# Altium schematic symbol library OltestLib_RC.SchLib: 93 symbols
Pins are listed as number, name and electrical type; pins without a type are passive.

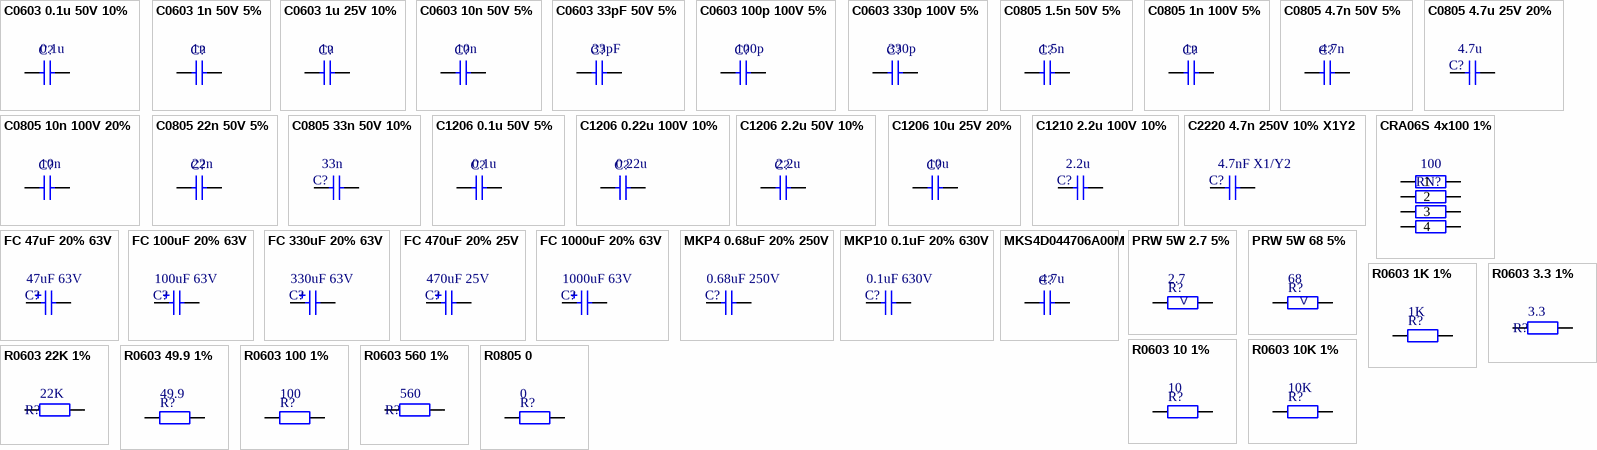
[diagram p0: symbols C0603 0.1u 50V 10% to R0805 0]

## C0603 0.1u 50V 10%
designator C?, comment 0.1u
SMD 0603 MURATA 50V 10% X7R; PartNumber: GRM188R71H104K; Manufacturer: MURATA; Value: 0.1u
footprint SMD_C_0603
pins: 1, 2

## C0603 1n 50V 5%
designator C?, comment 1n
SMD 0603 MURATA 50V 5% NP0; PartNumber: GRM1885C1H102JA01; Manufacturer: MURATA; Value: 1n
footprint SMD_C_0603
pins: 1, 2

## C0603 1u 25V 10%
designator C?, comment 1u
SMD 0603 MURATA 25V 10% X7R; PartNumber: GRM188R71E105KA12; Manufacturer: MURATA; Value: 1u
footprint SMD_C_0603
pins: 1, 2

## C0603 10n 50V 5%
designator C?, comment 10n
SMD 0603 MURATA 50V 5% NP0; PartNumber: GRM1885C1H103JA01#; Manufacturer: MURATA; Value: 10n
footprint SMD_C_0603
pins: 1, 2

## C0603 33pF 50V 5%
designator C?, comment 33pF
SMD 0603 MURATA 50V 5% NP0; PartNumber: GRM1885C1H330JA01; Manufacturer: MURATA; Value: 33pF
footprint SMD_C_0603
pins: 1, 2

## C0603 100p 100V 5%
designator C?, comment 100p
SMD 0603 MURATA 100V 5% NP0; PartNumber: GRM1885C2A101JA01; Manufacturer: MURATA; Value: 100p
footprint SMD_C_0603
pins: 1, 2

## C0603 330p 100V 5%
designator C?, comment 330p
SMD 0603 MURATA 100V 5% NP0; PartNumber: GRM1885C2A331JA01; Manufacturer: MURATA; Value: 330p
footprint SMD_C_0603 (Chip Capacitor, 2-Leads, Body 1,60x0,80mm, IPC Low Density)
pins: 1, 2

## C0805 1.5n 50V 5%
designator C?, comment 1.5n
SMD 0805 MURATA 50V 5% NP0; PartNumber: GRM2165C1H152JA01; Manufacturer: MURATA; Value: 1.5n
footprint SMD_C_0805
pins: 1, 2

## C0805 1n 100V 5%
designator C?, comment 1n
SMD 0805 MURATA 100V 5% NP0; PartNumber: GRM2165C2A102J; Manufacturer: MURATA; Value: 1n
footprint SMD_C_0805 (Chip Capacitor, 2-Leads, Body 2,00x1,25mm, IPC Low Density)
pins: 1, 2

## C0805 4.7n 50V 5%
designator C?, comment 4.7n
SMD 0805 MURATA 50V 5% NP0; PartNumber: GRM2195C1H472JA01; Manufacturer: MURATA; Value: 4.7n
footprint SMD_C_0805 (Chip Capacitor, 2-Leads, Body 2,00x1,25mm, IPC Low Density)
pins: 1, 2

## C0805 4.7u 25V 20%
designator C?, comment 4.7u
SMD 0805 MURATA 25V 20% X5R; PartNumber: GRM21BR61E475M; Manufacturer: MURATA; Value: 4.7u
footprint SMD_C_0805 (Chip Capacitor, 2-Leads, Body 2,00x1,25mm, IPC Low Density)
pins: 1, 2

## C0805 10n 100V 20%
designator C?, comment 10n
SMD 0805 MURATA 100V 20% X7R; PartNumber: GRM216R72A103MAC4#; Manufacturer: MURATA; Value: 10n
footprint SMD_C_0805 (Chip Capacitor, 2-Leads, Body 2,00x1,25mm, IPC Low Density)
pins: 1, 2

## C0805 22n 50V 5%
designator C?, comment 22n
SMD 0805 MURATA 50V 5% NP0; PartNumber: GRM21B5C1H223JA01; Manufacturer: MURATA; Value: 22n
footprint SMD_C_0805
pins: 1, 2

## C0805 33n 50V 10%
designator C?, comment 33n
SMD 0805 MURATA 50V 10% X7R; PartNumber: GRM219R71H333KA01#; Manufacturer: MURATA; Value: 33n
footprint SMD_C_0805 (Chip Capacitor, 2-Leads, Body 2,00x1,25mm, IPC Low Density)
pins: 1, 2

## C1206 0.1u 50V 5%
designator C?, comment 0.1u
SMD 1206 MURATA 50V 5% NP0; PartNumber: GRM31C5C1H104JA01L; Manufacturer: MURATA; Value: 0.1u
footprint SMD_C_1206
pins: 1, 2

## C1206 0.22u 100V 10%
designator C?, comment 0.22u
SMD 1206 MURATA 100V 10% X7R; PartNumber: GRM31MR72A224KA01; Manufacturer: MURATA; Value: 0.22u
footprint SMD_C_1206
pins: 1, 2

## C1206 2.2u 50V 10%
designator C?, comment 2.2u
SMD 1206 MURATA 50V 10% X7R; PartNumber: GRM31CR71H225KA88L; Manufacturer: MURATA; Value: 2.2u
footprint SMD_C_1206
pins: 1, 2

## C1206 10u 25V 20%
designator C?, comment 10u
SMD 1206 MURATA 25V 20% X5R; PartNumber: GRM31MR61E106M; Manufacturer: MURATA; Value: 10u
footprint SMD_C_1206
pins: 1, 2

## C1210 2.2u 100V 10%
designator C?, comment 2.2u
SMD 1210 MURATA 100V 10% X7R; PartNumber: GRM32ER72A225KA35L; Manufacturer: MURATA; Value: 2.2u
footprint SMD_C_1210 (Chip Capacitor, 2-Leads, Body 3,20x2,50mm, IPC Low Density)
pins: 1, 2

## C2220 4.7n 250V 10% X1Y2
designator C?, comment 4.7nF X1/Y2
SMD 2220 MURATA 250V 10% X7R X1Y2; PartNumber: GA355DR7GF472KW01; Manufacturer: MURATA; Value: 4.7nF X1/Y2
footprint SMD_C_1210 (Chip Capacitor, 2-Leads, Body 3,20x2,50mm, IPC Low Density)
pins: 1, 2

## CRA06S 4x100 1%
designator RN?, comment 100
SMD RESISTOR ARRAY VISHAY 0.063W 50V 1% 100ppm; PartNumber: CRA06S083100RF; Manufacturer: VISHAY; Value: 100
footprint CRA06S (Chip Array, ConvexS, 8-Leads, Pitch 0,80mm,  Body 3,20x1,50mm,  IPC Low Density)
pins: 1, 2, 3, 4, 5, 6, 7, 8

## FC 47uF 20% 63V
designator C?, comment 47uF 63V
Aluminum Electrolytic Radial D8 L11.5 LS3.5 63V 20%; PartNumber: EEUFC1J470(); Manufacturer: Panasonic; Value: 47uF 63V
footprint El_D8_H11.5_LS3.5
footprint El_D8_H11.5_LS3.5_2
pins: 1, 2

## FC 100uF 20% 63V
designator C?, comment 100uF 63V
Aluminum Electrolytic Radial VISHAY D10 L16 LS5 63V 20%; PartNumber: MAL214658101E3; Manufacturer: VISHAY; Value: 100uF 63V
footprint El_D10_H16_LS5.0
footprint El_D10_H16_LS5.0_2
pins: 1, 2

## FC 330uF 20% 63V
designator C?, comment 330uF 63V
Aluminum Electrolytic Radial D12.5 L20 LS5 63V 20%; PartNumber: EEUFC1J331; Manufacturer: Panasonic; Value: 330uF 63V
footprint El_D12.5_H20_LS5.0
pins: 1, 2

## FC 470uF 20% 25V
designator C?, comment 470uF 25V
Aluminum Electrolytic Radial D10 L16 LS5 25V 20%; PartNumber: EEUFC1E471; Manufacturer: Panasonic; Value: 470uF 25V
footprint El_D10_H16_LS5.0
footprint El_D10_H16_LS5.0_2
pins: 1, 2

## FC 1000uF 20% 63V
designator C?, comment 1000uF 63V
Aluminum Electrolytic Radial D16 L35.5 LS7.5 63V 20%; PartNumber: EEUFC1J102; Manufacturer: Panasonic; Value: 1000uF 63V
footprint El_D16_H31.5_LS7.5
footprint El_D16_H31.5_LS7.5_2
pins: 1, 2

## MKP4 0.68uF 20% 250V
designator C?, comment 0.68uF 250V
Polypropelene W8 H15 L18 LS15 250V 20%; PartNumber: MKP4F036804F00; Manufacturer: Wima; Value: 0.68uF 250V
footprint MKP_W8_H15_L18_LS15
pins: 1, 2

## MKP10 0.1uF 20% 630V
designator C?, comment 0.1uF 630V
Polypropelene W7 H16.5 L26.5 LS22.5 400VAC 630VDC 20%; PartNumber: MKP1J031005D; Manufacturer: Wima; Value: 0.1uF 630V
footprint MKP_W7_H16.5_L26.5_LS22.5
pins: 1, 2

## MKS4D044706A00M
designator C?, comment 4.7u
MKS4 WIMA 100V 20% Metallized Polyester Capacitor; PartNumber: MKS4D044706A00M; Manufacturer: WIMA; Value: 4.7u
footprint MKS4D044706A00
pins: 1, 2

## PRW 5W 2.7 5%
designator R?, comment 2.7
ROYALOHM 5W Cement Resistor; PartNumber: PRW05WJW27J; Manufacturer: ROYALOHM; Value: 2.7
footprint PRW05W (AXIAL, 2-Leads)
pins: 1, 2
text: V

## PRW 5W 68 5%
designator R?, comment 68
ROYALOHM 5W Cement Resistor; PartNumber: PRW05WJP680; Manufacturer: ROYALOHM; Value: 68
footprint PRW05W (AXIAL, 2-Leads)
pins: 1, 2
text: V

## R0603 1K 1%
designator R?, comment 1K
SMD 0603 VISHAY 0.1W 75V 1% 100ppm; PartNumber: CRCW06031K00FK; Manufacturer: VISHAY; Value: 1K
footprint SMD_R_0603
pins: 1, 2

## R0603 3.3 1%
designator R?, comment 3.3
SMD 0603 VISHAY 0.1W 75V 1% 100ppm; PartNumber: CRCW06033R30FK; Manufacturer: VISHAY; Value: 3.3
footprint SMD_R_0603 (Chip Resistor, 2-Leads, Body 1,55x0,85mm, IPC Low Density)
pins: 1, 2

## R0603 10 1%
designator R?, comment 10
SMD 0603 VISHAY 0.1W 75V 1% 100ppm; PartNumber: CRCW060310R0FK; Manufacturer: VISHAY; Value: 10
footprint SMD_R_0603
pins: 1, 2

## R0603 10K 1%
designator R?, comment 10K
SMD 0603 VISHAY 0.1W 75V 1% 100ppm; PartNumber: CRCW060310K0FK; Manufacturer: VISHAY; Value: 10K
footprint SMD_R_0603
pins: 1, 2

## R0603 22K 1%
designator R?, comment 22K
SMD 0603 VISHAY 0.1W 75V 1% 100ppm; PartNumber: CRCW060322K0FK; Manufacturer: VISHAY; Value: 22K
footprint SMD_R_0603 (Chip Resistor, 2-Leads, Body 1,55x0,85mm, IPC Low Density)
pins: 1, 2

## R0603 49.9 1%
designator R?, comment 49.9
SMD 0603 VISHAY 0.1W 75V 1% 100ppm; PartNumber: CRCW060349R9FK; Manufacturer: VISHAY; Value: 49.9
footprint SMD_R_0603
pins: 1, 2

## R0603 100 1%
designator R?, comment 100
SMD 0603 VISHAY 0.1W 75V 1% 100ppm; PartNumber: CRCW0603100RFK; Manufacturer: VISHAY; Value: 100
footprint SMD_R_0603
pins: 1, 2

## R0603 560 1%
designator R?, comment 560
SMD 0603 VISHAY 0.1W 75V 1% 100ppm; PartNumber: CRCW0603560RFK; Manufacturer: VISHAY; Value: 560
footprint SMD_R_0603 (Chip Resistor, 2-Leads, Body 1,55x0,85mm, IPC Low Density)
pins: 1, 2

## R0805 0
designator R?, comment 0
SMD 0805 VISHAY; PartNumber: CRCW08050000ZC; Manufacturer: VISHAY; Value: 0
footprint SMD_R_0805
pins: 1, 2

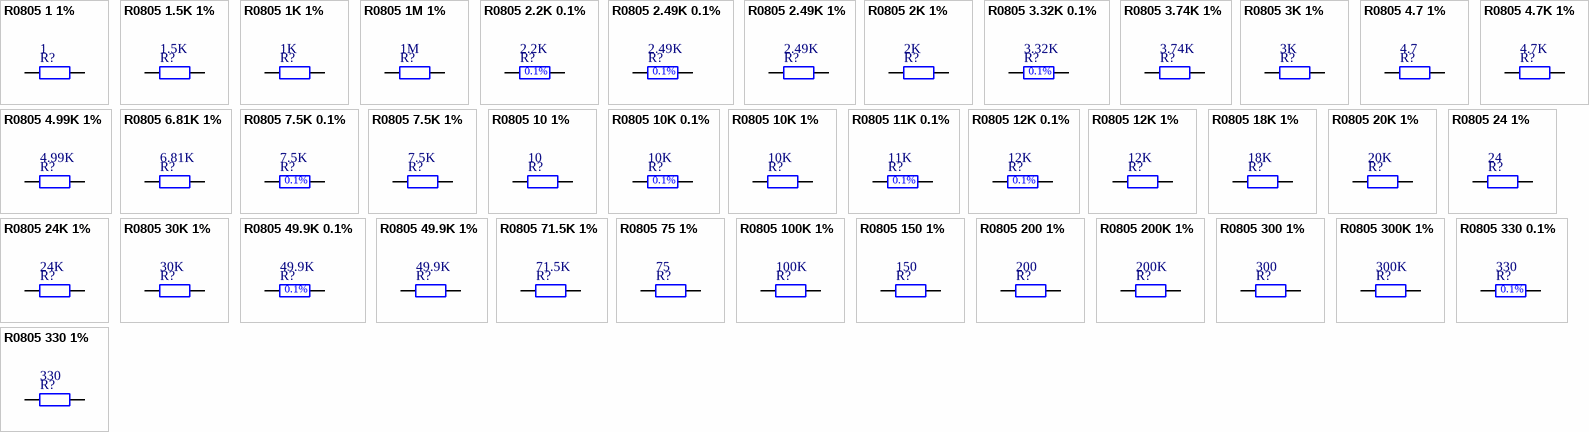
[diagram p1: symbols R0805 1 1% to R0805 330 1%]

## R0805 1 1%
designator R?, comment 1
SMD 0805 VISHAY 0.125W 150V 1% 100ppm; PartNumber: CRCW08051R00FK; Manufacturer: VISHAY; Value: 1
footprint SMD_R_0805
pins: 1, 2

## R0805 1.5K 1%
designator R?, comment 1.5K
SMD 0805 VISHAY 0.125W 150V 1% 100ppm; PartNumber: CRCW08051K50FK; Manufacturer: VISHAY; Value: 1.5K
footprint SMD_R_0805
pins: 1, 2

## R0805 1K 1%
designator R?, comment 1K
SMD 0805 VISHAY 0.125W 150V 1% 100ppm; PartNumber: CRCW08051K00FK; Manufacturer: VISHAY; Value: 1K
footprint SMD_R_0805
pins: 1, 2

## R0805 1M 1%
designator R?, comment 1M
SMD 0805 VISHAY 0.125W 150V 1% 100ppm; PartNumber: CRCW08051M00KF; Manufacturer: VISHAY; Value: 1M
footprint SMD_R_0805
pins: 1, 2

## R0805 2.2K 0.1%
designator R?, comment Tolerance: 0.1%  (hidden comment: 2.2K)
SMD 0805 VISHAY 0.125W 150V 0.1% 25ppm; PartNumber: TNPW08052K20BE; Manufacturer: VISHAY; Value: 2.2K
footprint SMD_R_0805
pins: 1, 2

## R0805 2.49K 0.1%
designator R?, comment Tolerance: 0.1%  (hidden comment: 2.49K)
SMD 0805 VISHAY 0.125W 150V 0.1% 25ppm; PartNumber: TNPW08052K49BE; Manufacturer: VISHAY; Value: 2.49K
footprint SMD_R_0805
pins: 1, 2

## R0805 2.49K 1%
designator R?, comment 2.49K
SMD 0805 VISHAY 0.125W 150V 1% 100ppm; PartNumber: CRCW08052K49FK; Manufacturer: VISHAY; Value: 2.49K
footprint SMD_R_0805
pins: 1, 2

## R0805 2K 1%
designator R?, comment 2K
SMD 0805 VISHAY 0.125W 150V 1% 100ppm; PartNumber: CRCW08052K00FK; Manufacturer: VISHAY; Value: 2K
footprint SMD_R_0805
pins: 1, 2

## R0805 3.32K 0.1%
designator R?, comment Tolerance: 0.1%  (hidden comment: 3.32K)
SMD 0805 VISHAY 0.125W 150V 0.1% 25ppm; PartNumber: TNPW08053K32BE; Manufacturer: VISHAY; Value: 3.32K
footprint SMD_R_0805
pins: 1, 2

## R0805 3.74K 1%
designator R?, comment 3.74K
SMD 0805 VISHAY 0.125W 150V 1% 100ppm; PartNumber: CRCW08053K74FK; Manufacturer: VISHAY; Value: 3.74K
footprint SMD_R_0805
pins: 1, 2

## R0805 3K 1%
designator R?, comment 3K
SMD 0805 VISHAY 0.125W 150V 1% 100ppm; PartNumber: CRCW08053K00FK; Manufacturer: VISHAY; Value: 3K
footprint SMD_R_0805
pins: 1, 2

## R0805 4.7 1%
designator R?, comment 4.7
SMD 0805 VISHAY 0.125W 150V 1% 100ppm; PartNumber: CRCW08054R70FK; Manufacturer: VISHAY; Value: 4.7
footprint SMD_R_0805
pins: 1, 2

## R0805 4.7K 1%
designator R?, comment 4.7K
SMD 0805 VISHAY 0.125W 150V 1% 100ppm; PartNumber: CRCW08054K70FK; Manufacturer: VISHAY; Value: 4.7K
footprint SMD_R_0805
pins: 1, 2

## R0805 4.99K 1%
designator R?, comment 4.99K
SMD 0805 VISHAY 0.125W 150V 1% 100ppm; PartNumber: CRCW08054K99FK; Manufacturer: VISHAY; Value: 4.99K
footprint SMD_R_0805
pins: 1, 2

## R0805 6.81K 1%
designator R?, comment 6.81K
SMD 0805 VISHAY 0.125W 150V 1% 100ppm; PartNumber: CRCW08056K81FK; Manufacturer: VISHAY; Value: 6.81K
footprint SMD_R_0805
pins: 1, 2

## R0805 7.5K 0.1%
designator R?, comment Tolerance: 0.1%  (hidden comment: 7.5K)
SMD 0805 VISHAY 0.125W 150V 0.1% 25ppm; PartNumber: TNPW08057K50BE; Manufacturer: VISHAY; Value: 7.5K
footprint SMD_R_0805
pins: 1, 2

## R0805 7.5K 1%
designator R?, comment 7.5K
SMD 0805 VISHAY 0.125W 150V 1% 100ppm; PartNumber: CRCW08057K50FK; Manufacturer: VISHAY; Value: 7.5K
footprint SMD_R_0805
pins: 1, 2

## R0805 10 1%
designator R?, comment 10
SMD 0805 VISHAY 0.125W 150V 1% 100ppm; PartNumber: CRCW080510R0FK; Manufacturer: VISHAY; Value: 10
footprint SMD_R_0805
pins: 1, 2

## R0805 10K 0.1%
designator R?, comment Tolerance: 0.1%  (hidden comment: 10K)
SMD 0805 VISHAY 0.125W 150V 0.1% 25ppm; PartNumber: TNPW080510K0BE; Manufacturer: VISHAY; Value: 10K
footprint SMD_R_0805
pins: 1, 2

## R0805 10K 1%
designator R?, comment 10K
SMD 0805 VISHAY 0.125W 150V 1% 100ppm; PartNumber: CRCW080510K0FK; Manufacturer: VISHAY; Value: 10K
footprint SMD_R_0805
pins: 1, 2

## R0805 11K 0.1%
designator R?, comment Tolerance: 0.1%  (hidden comment: 11K)
SMD 0805 VISHAY 0.125W 150V 0.1% 25ppm; PartNumber: TNPW080511K0BE; Manufacturer: VISHAY; Value: 11K
footprint SMD_R_0805
pins: 1, 2

## R0805 12K 0.1%
designator R?, comment Tolerance: 0.1%  (hidden comment: 12K)
SMD 0805 VISHAY 0.125W 150V 0.1% 25ppm; PartNumber: TNPW080512K0BE; Manufacturer: VISHAY; Value: 12K
footprint SMD_R_0805
pins: 1, 2

## R0805 12K 1%
designator R?, comment 12K
SMD 0805 VISHAY 0.125W 150V 1% 100ppm; PartNumber: CRCW080512K0FK; Manufacturer: VISHAY; Value: 12K
footprint SMD_R_0805
pins: 1, 2

## R0805 18K 1%
designator R?, comment 18K
SMD 0805 VISHAY 0.125W 150V 1% 100ppm; PartNumber: CRCW080518K0FK; Manufacturer: VISHAY; Value: 18K
footprint SMD_R_0805
pins: 1, 2

## R0805 20K 1%
designator R?, comment 20K
SMD 0805 VISHAY 0.125W 150V 1% 100ppm; PartNumber: CRCW080520K0FK; Manufacturer: VISHAY; Value: 20K
footprint SMD_R_0805
pins: 1, 2

## R0805 24 1%
designator R?, comment 24
SMD 0805 VISHAY 0.125W 150V 1% 100ppm; PartNumber: CRCW080524R0FK; Manufacturer: VISHAY; Value: 24
footprint SMD_R_0805
pins: 1, 2

## R0805 24K 1%
designator R?, comment 24K
SMD 0805 VISHAY 0.125W 150V 1% 100ppm; PartNumber: CRCW080524K0FK; Manufacturer: VISHAY; Value: 24K
footprint SMD_R_0805
pins: 1, 2

## R0805 30K 1%
designator R?, comment 30K
SMD 0805 VISHAY 0.125W 150V 1% 100ppm; PartNumber: CRCW080530K0FK; Manufacturer: VISHAY; Value: 30K
footprint SMD_R_0805
pins: 1, 2

## R0805 49.9K 0.1%
designator R?, comment Tolerance: 0.1%  (hidden comment: 49.9K)
SMD 0805 VISHAY 0.125W 150V 0.1% 25ppm; PartNumber: TNPW080549K9BE; Manufacturer: VISHAY; Value: 49.9K
footprint SMD_R_0805
pins: 1, 2

## R0805 49.9K 1%
designator R?, comment 49.9K
SMD 0805 VISHAY 0.125W 150V 1% 100ppm; PartNumber: CRCW080549K9FK; Manufacturer: VISHAY; Value: 49.9K
footprint SMD_R_0805
pins: 1, 2

## R0805 71.5K 1%
designator R?, comment 71.5K
SMD 0805 VISHAY 0.125W 150V 1% 100ppm; PartNumber: CRCW080571K5FK; Manufacturer: VISHAY; Value: 71.5K
footprint SMD_R_0805
pins: 1, 2

## R0805 75 1%
designator R?, comment 75
SMD 0805 VISHAY 0.125W 150V 1% 100ppm; PartNumber: CRCW080575R0FK; Manufacturer: VISHAY; Value: 75
footprint SMD_R_0805
pins: 1, 2

## R0805 100K 1%
designator R?, comment 100K
SMD 0805 VISHAY 0.125W 150V 1% 100ppm; PartNumber: CRCW0805100KFK; Manufacturer: VISHAY; Value: 100K
footprint SMD_R_0805
pins: 1, 2

## R0805 150 1%
designator R?, comment 150
SMD 0805 VISHAY 0.125W 150V 1% 100ppm; PartNumber: CRCW0805150RFK; Manufacturer: VISHAY; Value: 150
footprint SMD_R_0805
pins: 1, 2

## R0805 200 1%
designator R?, comment 200
SMD 0805 VISHAY 0.125W 150V 1% 100ppm; PartNumber: CRCW0805200RFK; Manufacturer: VISHAY; Value: 200
footprint SMD_R_0805
pins: 1, 2

## R0805 200K 1%
designator R?, comment 200K
SMD 0805 VISHAY 0.125W 150V 1% 100ppm; PartNumber: CRCW0805200KFK; Manufacturer: VISHAY; Value: 200K
footprint SMD_R_0805
pins: 1, 2

## R0805 300 1%
designator R?, comment 300
SMD 0805 VISHAY 0.125W 150V 1% 100ppm; PartNumber: CRCW0805300RFK; Manufacturer: VISHAY; Value: 300
footprint SMD_R_0805
pins: 1, 2

## R0805 300K 1%
designator R?, comment 300K
SMD 0805 VISHAY 0.125W 150V 1% 100ppm; PartNumber: CRCW0805300KFK; Manufacturer: VISHAY; Value: 300K
footprint SMD_R_0805
pins: 1, 2

## R0805 330 0.1%
designator R?, comment Tolerance: 0.1%  (hidden comment: 330)
SMD 0805 VISHAY 0.125W 150V 0.1% 25ppm; PartNumber: TNPW0805330RBE; Manufacturer: VISHAY; Value: 330
footprint SMD_R_0805
pins: 1, 2

## R0805 330 1%
designator R?, comment 330
SMD 0805 VISHAY 0.125W 150V 1% 100ppm; PartNumber: CRCW0805330RFK; Manufacturer: VISHAY; Value: 330
footprint SMD_R_0805
pins: 1, 2

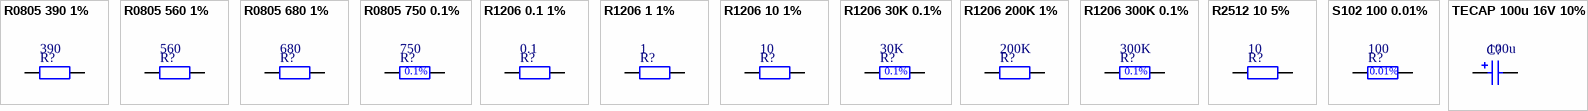
[diagram p2: symbols R0805 390 1% to TECAP 100u 16V 10%]

## R0805 390 1%
designator R?, comment 390
SMD 0805 VISHAY 0.125W 150V 1% 100ppm; PartNumber: CRCW0805390RFK; Manufacturer: VISHAY; Value: 390
footprint SMD_R_0805
pins: 1, 2

## R0805 560 1%
designator R?, comment 560
SMD 0805 VISHAY 0.125W 150V 1% 100ppm; PartNumber: CRCW0805560RFK; Manufacturer: VISHAY; Value: 560
footprint SMD_R_0805
pins: 1, 2

## R0805 680 1%
designator R?, comment 680
SMD 0805 VISHAY 0.125W 150V 1% 100ppm; PartNumber: CRCW0805680RFK; Manufacturer: VISHAY; Value: 680
footprint SMD_R_0805
pins: 1, 2

## R0805 750 0.1%
designator R?, comment Tolerance: 0.1%  (hidden comment: 750)
SMD 0805 VISHAY 0.125W 150V 0.1% 25ppm; PartNumber: TNPW0805750RBE; Manufacturer: VISHAY; Value: 750
footprint SMD_R_0805
pins: 1, 2

## R1206 0.1 1%
designator R?, comment 0.1
SMD 1206 Viking Tech 0.25W 200V 1% 100ppm; PartNumber: RS-06FL7-0R1; Manufacturer: Viking Tech; Value: 0.1
footprint SMD_R_1206
pins: 1, 2

## R1206 1 1%
designator R?, comment 1
SMD 1206 VISHAY 0.25W 200V 1% 100ppm; PartNumber: CRCW12061R00FK; Manufacturer: VISHAY; Value: 1
footprint SMD_R_1206
pins: 1, 2

## R1206 10 1%
designator R?, comment 10
SMD 1206 VISHAY 0.25W 200V 1% 100ppm; PartNumber: CRCW120610R0FK; Manufacturer: VISHAY; Value: 10
footprint SMD_R_1206
pins: 1, 2

## R1206 30K 0.1%
designator R?, comment Tolerance: 0.1%  (hidden comment: 30K)
SMD 1206 VISHAY 0.25W 200V 0.1% 25ppm; PartNumber: TNPW120630K0BE; Manufacturer: VISHAY; Value: 30K
footprint SMD_R_1206
pins: 1, 2

## R1206 200K 1%
designator R?, comment 200K
SMD 1206 VISHAY 0.25W 200V 1% 100ppm; PartNumber: CRCW1206200KFK; Manufacturer: VISHAY; Value: 200K
footprint SMD_R_1206
pins: 1, 2

## R1206 300K 0.1%
designator R?, comment Tolerance: 0.1%  (hidden comment: 300K)
SMD 1206 VISHAY 0.25W 200V 0.1% 25ppm; PartNumber: TNPW1206300KBE; Manufacturer: VISHAY; Value: 300K
footprint SMD_R_1206
pins: 1, 2

## R2512 10 5%
designator R?, comment 10
SMD 2512 VISHAY 1W 500V 5% 200ppm; PartNumber: CRCW12061R00FK; Manufacturer: VISHAY; Value: 10
footprint SMD_R_2512
pins: 1, 2

## S102 100 0.01%
designator R?, comment Tolerance: 0.01%  (hidden comment: 100)
VISHAY High Precision 0.01% 2ppm; PartNumber: Y0785100R000T; Manufacturer: VISHAY; Value: 100
footprint S102 (2-Leads, Resistor)
pins: 1, 2

## TECAP 100u 16V 10%
designator C?, comment 100u
SMD SIZE C TANTALUM AVX 16V 10%; PartNumber: TAJC107K016RNJ; Manufacturer: AVX; Value: 100u
footprint TAJC (Molded Capacitor, 2-Leads, Body 6,00x3,25mm, IPC Low Density)
pins: 1, 2